# Altium footprint library SOT23-6.PcbLib: 1 footprints
Each footprint in its own frame and in the unit in brackets; x right, y up, seen from the top. Pads: shape width x height; smd on the part's side, far side on the other; paste and mask are expansions set on the pad; w line width, h text height; cw(c..) or ccw(c..) is an arc to the next point about the centre after c.
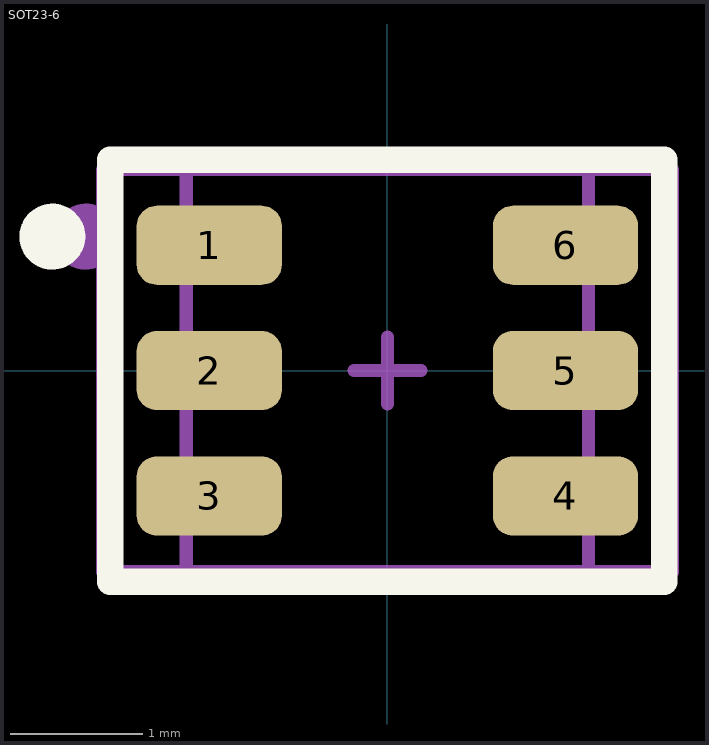
[diagram p0: the footprint, top view; thin cyan lines are the x and y axes]

## SOT23-6 [mm]
pads (6):
  rrect50% 1.1x0.6 smd paste+0 mask+0.1: 1(-1.35,0.95) 2(-1.35,0) 4(1.35,-0.95) 5(1.35,0) 6(1.35,0.95)
  rrect50% 1.1x0.6 smd: 3(-1.35,-0.95)
Top Overlay:
  circle w0.25: c-2.54,1.016 r0.125
  lines w0.2: -2.1,-1.6 -2.1,1.6 2.1,1.6 2.1,-1.6 -2.1,-1.6
Mechanical 1:
  circle w0.25: c-2.286,1.016 r0.125
  lines w0.1: -1.524,-1.651 -1.524,1.524 1.524,1.524 1.524,-1.651 -1.524,-1.651
  text ".Designator" at 0,0.113 h0.6
Mechanical 15:
  lines w0.1: -0.254,0 0.254,0 ; 0,-0.254 0,0.254 ; -2.159,-1.524 -2.159,1.524 2.159,1.524 2.159,-1.524 -2.159,-1.524
3D body "SOT23 (1).step": height 1.25, standoff 0, extent -1.5,-1.515 1.5,1.515